# Altium schematic symbol library CAP,Tant,100uF,6.3VDC,1206.Schlib: 1 symbol
Pins are listed as number, name and electrical type; pins without a type are passive.

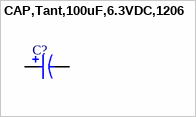
[diagram p0: symbol CAP,Tant,100uF,6.3VDC,1206]

## CAP,Tant,100uF,6.3VDC,1206
designator C?
pins: 1, 2